# Altium footprint library EVPATAL1B000.PcbLib: 1 footprints
Each footprint in its own frame and in the unit in brackets; x right, y up, seen from the top. Pads: shape width x height; smd on the part's side, far side on the other; paste and mask are expansions set on the pad; w line width, h text height; cw(c..) or ccw(c..) is an arc to the next point about the centre after c.
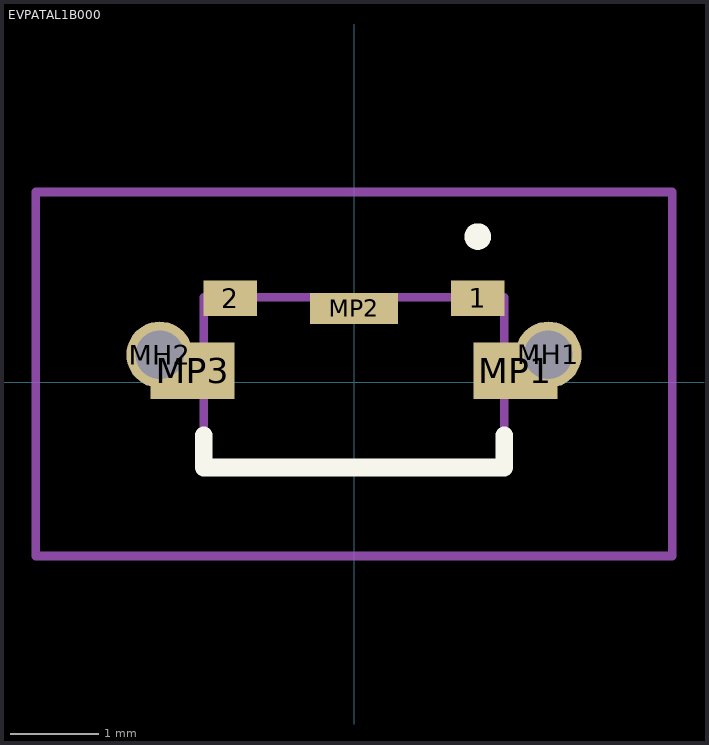
[diagram p0: the footprint, top view; thin cyan lines are the x and y axes]

## EVPATAL1B000 [mm]
pads (7):
  rect 0.6x0.4 smd: 1(1.4,0.952) 2(-1.4,0.952)
  round 0.75 hole 0.55: MH1(2.2,0.313) MH2(-2.2,0.313)
  rect 0.95x0.64 smd: MP1(1.825,0.133) MP3(-1.825,0.133)
  rect 1x0.35 smd: MP2(0,0.838)
Top Overlay:
  lines w0.2: -1.7,-0.6 -1.7,-0.963 1.7,-0.963 1.7,-0.6 ; 1.4,1.6 cw(c1.4,1.65) 1.4,1.7 ; 1.4,1.6 1.4,1.6 ; 1.4,1.6 ccw(c1.4,1.65) 1.4,1.7 ; 1.4,1.6 cw(c1.4,1.65) 1.4,1.7 ; 1.4,1.7 1.4,1.7 ; 1.4,1.7 1.4,1.7
Mechanical 15:
  lines w0.1: -1.7,-0.963 1.7,-0.963 1.7,0.962 -1.7,0.962 -1.7,-0.963
Mechanical 20:
  lines w0.1: -3.6,-1.963 3.6,-1.963 3.6,2.152 -3.6,2.152 -3.6,-1.963